# EAGLE library part AS-ITM-00117 (library tinycircuits)
TXRX IRDA 115.2 KBIT/S - 6-SMD 1
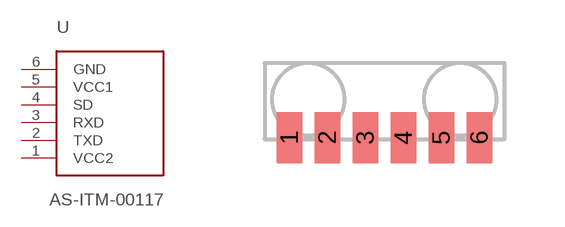
[diagram p48: symbol with the pads of TFBS4711; footprint TFBS4711]

Designator prefix -

## AS-ITM-00117 (VALUE: TFBS4711)  [TFBS4711]
1  VCC2
2  TXD
3  RXD
4  SD
5  VCC1
6  GND

## Footprint TFBS4711 (pad centres in mm)
smd 0.64 x 1.27: 1 -2.428,-1.235; 2 -1.478,-1.235; 3 -0.528,-1.235; 4 0.422,-1.235; 5 1.372,-1.235; 6 2.322,-1.235